# Altium footprint library FTP GER. ABS.PcbLib: 19 footprints (part 1 of 2)
Each footprint in its own frame and in the unit in brackets; x right, y up, seen from the top. Pads: shape width x height; smd on the part's side, far side on the other; paste and mask are expansions set on the pad; w line width, h text height; cw(c..) or ccw(c..) is an arc to the next point about the centre after c.
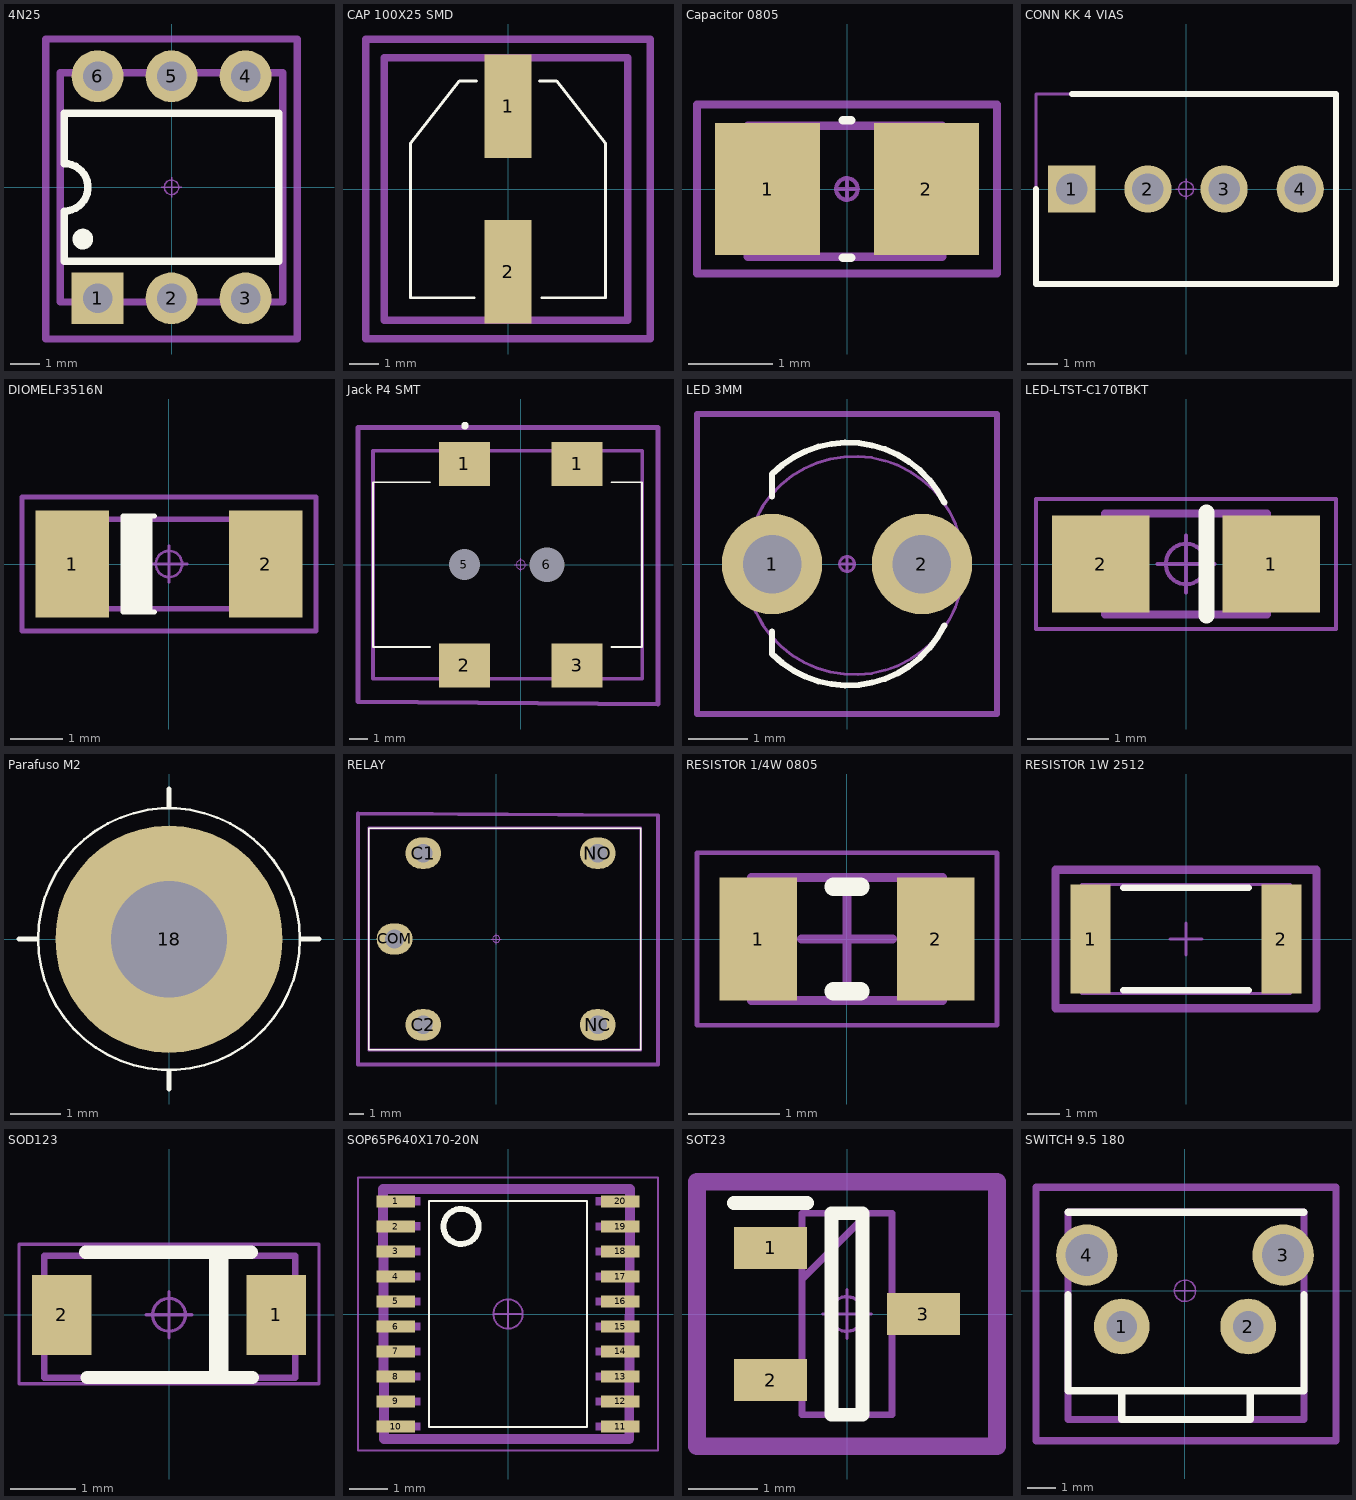
[diagram p0: the footprints below, top view; thin cyan lines are the x and y axes]

## 4N25 [mil]
pads (6):
  rect 70x70 hole 40: 1(-100,-150)
  round 70 hole 40: 2(0,-150) 3(100,-150) 4(100,150) 5(0,150) 6(-100,150)
Top Overlay:
  circle w18: c-120,-70 r5
  lines w10: -145,-100 145,-100 145,100 -145,100 -145,32.02 cw(c-145,0) -145,-32.02 -145,-100
Mechanical 2:
  lines w10: 170,200 170,-205 -170,-205 -170,200.37 170,200.37
Top Component Center:
  circle w1.97: c0,0 r9.84
  lines w1.97: -13.78,0 13.78,0 ; 0,-13.78 0,13.78
Mechanical 15:
  lines w10: -150.39,-155 150,-155 150,155 -150.39,155 -150.39,-155
3D body "4N25.STEP": height 156.62, standoff -147.13, extent -155.12,-159.86 151.97,159.86

## CAP 100X25 SMD [mm]
pads (2):
  rect 1.6x3.5 smd paste-0.05 mask+0.07: 1(0,2.8) 2(0,-2.8)
Top Overlay:
  lines w0.099: -3.3,-3.683 -1.143,-3.683 ; 1.143,-3.683 3.3,-3.683
  lines w0.1: -3.3,-3.683 -3.3,1.55 -1.65,3.658 -1.067,3.658 ; 1.067,3.658 1.65,3.658 3.3,1.55 3.3,-3.683
Mechanical 2:
  lines w0.254: -4.826,-5.08 4.826,-5.08 4.826,5.08 -4.826,5.08 -4.826,-5.08
Mechanical 15:
  lines w0.254: -4.191,-4.445 4.064,-4.445 4.064,4.445 -4.191,4.445 -4.191,-4.445
3D body "Download_STP_865080x4901x (rev1).stp": height 6.51, standoff 0.01, extent -4.15,-4.5 4.15,4.5

## Capacitor 0805 [mm]
pads (2):
  rect 1.24x1.56 smd paste-0.05 mask+0.07: 1(-0.94,0) 2(0.94,0)
Top Overlay:
  lines w0.1: -0.051,-0.813 0.051,-0.813 ; -0.051,0.813 0.051,0.813
Mechanical 2:
  lines w0.1: -1.775,-1 1.775,-1 1.775,1 -1.775,1 -1.775,-1
Top Component Center:
  circle w0.05: c0,0 r0.127
  lines w0.05: -0.127,0 0,0 ; 0,-0.127 0,0 ; 0,0.127 0,0 ; 0.127,0 0,0
Mechanical 15:
  lines w0.1: -1.175,-0.8 -1.175,0.75 1.125,0.75 1.125,-0.8 -1.175,-0.8
3D body "C0805X153K5HACAUTO.stp": height 1, standoff 0, extent -1.175,-0.788 1.125,0.762

## CONN KK 4 VIAS [mm]
pads (4):
  rect 1.575x1.575 / inner round 1.575 / far side rect 1.575x1.575 hole 1.05: 1(-3.81,0)
  round 1.575 hole 1.05: 2(-1.27,0) 3(1.27,0) 4(3.81,0)
Top Overlay:
  lines w0.2: -5.005,0 -5.005,-3.175 5.005,-3.175 5.005,3.175 -3.81,3.175
Top Component Center:
  circle w0.05: c0,0 r0.25
  lines w0.05: -0.35,0 0.35,0 ; 0,-0.35 0,0.35
Mechanical 15:
  lines w0.1: -5.005,-3.175 -5.005,3.175 5.005,3.175 5.005,-3.175 -5.005,-3.175
3D body "22-11-2046.stp": height 11.64, standoff -3.43, extent -5.005,-3.175 5.005,3.175

## DIOMELF3516N [mm] "MELF Diode, 2-Leads, Body 3,51x1,65mm, IPC Medium Density"
height 1.7
pads (2):
  rect 1.4x2.03 smd paste-0.001 mask+0.051: 1(-1.84,0) 2(1.84,0)
Top Overlay:
  rectangle: -0.864,-0.916 -0.314,0.914
  lines w0.1: -0.274,-0.915 -0.874,-0.915 -0.874,0.915 -0.274,0.915
Mechanical 2:
  lines w0.1: -2.8,-1.275 -2.8,1 -2.8,1.275 2.8,1.275 2.8,-1.275 -2.8,-1.275
Top Component Center:
  circle w0.05: c0,0 r0.25
  lines w0.05: -0.35,0 0.35,0 ; 0,-0.35 0,0.35
Mechanical 15:
  lines w0.1: -1.875,-0.85 -1.875,0.85 1.85,0.85 1.85,-0.85 -1.875,-0.85
3D body "User Library-MiniMelf-2.STEP": height 1.6, standoff 0, extent -1.88,-0.8 1.82,0.8

## Jack P4 SMT [mm]
pads (6):
  rect 2.8x2.4 smd: 1(-3.075,5.5) 1(3.075,5.5) 2(-3.075,-5.5) 3(3.075,-5.5)
  round 0.85 hole 1.7 unplated: 5(-3.075,0)
  round 0.95 hole 1.9 unplated: 6(1.425,0)
Top Overlay:
  lines w0.1: -8.075,4.5 -8.075,-4.4 -8.075,-4.5 -4.958,-4.5 ; -8.052,4.5 -4.958,4.5 ; 4.953,-4.5 6.625,-4.5 6.625,4.5 4.953,4.5
  lines w0.2: -3.149,7.584 ccw(c-3.049,7.584) -2.949,7.584 ; -3.146,7.595 cw(c-3.046,7.595) -2.946,7.595
Mechanical 2:
  lines w0.254: -8.89,-7.493 7.493,-7.62 7.493,7.493 -8.89,7.493 -8.89,-7.493
Top Component Center:
  circle w0.05: c0,0 r0.25
  lines w0.05: -0.35,0 0.35,0 ; 0,-0.35 0,0.35
Mechanical 15:
  lines w0.2: -8.075,-6.223 -8.075,6.223 6.625,6.223 6.625,-6.223 -8.075,-6.223
3D body "694108106102.stp": height 11, standoff -1.2, extent -8.103,-6.199 6.597,6.301

## LED 3MM [mm]
pads (2):
  round 1.7 hole 0.991: 1(-1.27,0) 2(1.27,0)
Top Overlay:
  lines w0.1: -1.27,-1.524 -1.27,-1.143 ; -1.27,1.143 -1.27,1.524
  lines w0.102: -1.27,-1.524 ccw(c0.016,-0.238) 1.648,-1.04 ; -1.27,1.524 cw(c0.016,0.238) 1.648,1.04
Mechanical 5:
  lines w0.1: -2.54,-2.54 2.54,-2.54 2.54,2.54 -2.54,2.54 -2.54,0 -2.54,-2.54
Top Component Center:
  circle w0.05: c0,0 r0.127
  lines w0.05: -0.127,0 0,0 ; 0,-0.127 0,0 ; 0,0.127 0,0 ; 0.127,0 0,0
Mechanical 11:
  circle w0.05: c0.127,-0.025 r1.849
3D body "LED 3mm, Red, Thru-hole, Right Angle PCB 1.stp": height 4.43, standoff -2.69, extent -1.772,-7.332 1.798,0.218

## LED-LTST-C170TBKT [mm] "LED 120X120MM"
pads (2):
  rect 1.2x1.2 smd paste-0.05 mask+0.07: 1(1.05,0) 2(-1.05,0)
Top Overlay:
  lines w0.2: 0.254,-0.635 0.254,0.635
Mechanical 2:
  lines w0.05: -1.85,-0.8 1.85,-0.8 1.85,0.8 -1.85,0.8 -1.85,-0.8
Top Component Center:
  circle w0.05: c0,0 r0.25
  lines w0.05: -0.35,0 0.35,0 ; 0,-0.35 0,0.35
Mechanical 15:
  lines w0.1: -1,-0.625 -1,0.625 1,0.625 1,-0.625 -1,-0.625
3D body "everlight-17-21-0805LED-red.STEP": height 1.11, standoff 0, extent -1,-0.625 1,0.625

## Parafuso M2 [mm]
pads (1):
  round 4.5 hole 2.3 unplated: 18(0,0)
Top Overlay:
  circle w0.05: c0,0 r2.591
  lines w0.1: -2.966,0 -2.616,0 ; 0,-2.966 0,-2.616 ; 0,2.622 0,2.972 ; 2.616,0 2.966,0
3D body "Parafuso sextavado interno ISO 4762 - M2x3.x_t": height 2.01, standoff -2.99, extent -1.9,-1.897 1.9,1.897

## RELAY [mm]
pads (5):
  oval 2.5x2.2 hole 1.3: C1(-5.1,6) C2(-5.1,-6) COM(-7.1,0) NC(7.1,-6) NO(7.1,6)
Top Overlay:
  lines w0.1: -8.9,-7.75 10.1,-7.75 10.1,7.75 -8.9,7.75 -8.9,-7.75
Mechanical 2:
  lines w0.254: -9.652,-8.763 11.303,-8.763 11.303,8.636 -9.652,8.763 -9.652,-8.763
Top Component Center:
  circle w0.05: c0,0 r0.25
  lines w0.05: -0.35,0 0.35,0 ; 0,-0.35 0,0.35
Mechanical 15:
  lines w0.2: -8.9,-7.75 10.1,-7.75 10.1,7.75 -8.9,7.75 -8.9,-7.75
3D body "RELAY_SRD-05VDC.STEP": height 15.9, standoff -2.8, extent -8.711,-7.747 10.489,7.853

## RESISTOR 1/4W 0805 [mm]
height 0.6
pads (2):
  rect 0.85x1.35 smd: 1(-0.975,0) 2(0.975,0)
Top Overlay:
  lines w0.2: -0.15,-0.575 0.15,-0.575 ; -0.15,0.575 0.15,0.575
Mechanical 2:
  lines w0.05: -1.65,-0.95 -1.65,0.95 1.65,0.95 1.65,-0.95 -1.65,-0.95
Top Component Center:
  lines w0.1: -0.5,0 0.5,0 ; 0,-0.5 0,0.5
Mechanical 15:
  lines w0.1: -1.05,-0.675 -1.05,0.675 1.05,0.675 1.05,-0.675 -1.05,-0.675
3D body "Chip2PinSM127P600-8N.step": height 0.6, standoff 0, extent -1.05,-0.675 1.05,0.675

## RESISTOR 1W 2512 [mm]
height 0.6
pads (2):
  rect 1.25x3.4 smd: 1(-2.975,0) 2(2.975,0)
Top Overlay:
  lines w0.2: -1.95,-1.6 1.95,-1.6 ; -1.95,1.6 1.95,1.6
Mechanical 2:
  lines w0.254: -4.064,-2.159 4.064,-2.159 4.064,2.159 -4.064,2.159 -4.064,-2.159
Top Component Center:
  lines w0.1: -0.5,0 0.5,0 ; 0,-0.5 0,0.5
Mechanical 15:
  lines w0.1: -3.25,-1.7 3.25,-1.7 3.25,1.7 -3.25,1.7 -3.25,-1.7
3D body "Chip2PinSM127P600-8N.step": height 0.6, standoff 0, extent -3.25,-1.7 3.25,1.7

## SOD123 [mm] "DIODO"
pads (2):
  rect 0.91x1.22 smd paste-0.05 mask+0.07: 1(1.635,0) 2(-1.635,0)
Top Overlay:
  rectangle: 0.61,-0.864 0.908,0.864
  lines w0.2: -1.268,0.954 1.253,0.954 ; -1.247,-0.957 1.274,-0.957
Mechanical 2:
  lines w0.05: -2.286,-1.05 -2.286,0 -2.286,1.075 2.286,1.075 2.286,-1.05 -2.286,-1.05
Top Component Center:
  circle w0.05: c0,0 r0.25
  lines w0.05: -0.35,0 0.35,0 ; 0,-0.35 0,0.35
Mechanical 15:
  lines w0.1: -1.9,-0.957 1.925,-0.957 1.925,0.9 -1.9,0.9 -1.9,-0.957
3D body "1N4007W-T.stp": height 1.3, standoff 0, extent -1.9,-0.9 1.9,0.9

## SOP65P640X170-20N [mil] "SOP, 20-Leads, Body 6,50x4,40mm, Pitch 0,65mm, IPC Medium Density"
height 66.93
pads (20):
  rect 39x12 smd paste-1.97 mask+2.76: 1(-114.87,115.16) 2(-114.87,89.57) 3(-114.87,63.98) 4(-114.87,38.39) 5(-114.87,12.8) 6(-114.87,-12.8) 7(-114.87,-38.39) 8(-114.87,-63.98) 9(-114.87,-89.57) 10(-114.87,-115.16) 11(114.87,-115.16) 12(114.87,-89.57) 13(114.87,-63.98) 14(114.87,-38.39) 15(114.87,-12.8) 16(114.87,12.8) 17(114.87,38.39) 18(114.87,63.98) 19(114.87,89.57) 20(114.87,115.16)
Top Overlay:
  circle w6: c-48,89.59 r18
  lines w2: -80.87,-115.59 80.87,-115.59 80.87,115.59 -80.87,115.59 -80.87,-115.59
Mechanical 2:
  lines w1.97: -153.54,-139.76 153.54,-139.76 153.54,139.76 -153.54,139.76 -153.54,-139.76
Top Component Center:
  circle w1.97: c0,0 r15
  lines w1.97: -15,0 0,0 ; 0,-15 0,0 ; 0,15 0,0 ; 15,0 0,0
Mechanical 13:
  region: 89.96,111.16 89.96,119.28 122.87,119.28 122.87,111.16
  region: 89.88,85.57 89.88,93.57 122.87,93.57 122.87,85.57
  region: 89.88,59.98 89.88,67.98 122.87,67.98 122.87,59.98
  region: 89.89,34.39 89.89,42.39 122.87,42.39 122.87,34.39
  region: 89.93,8.8 89.93,16.81 122.87,16.81 122.87,8.8
  region: 89.95,-16.8 89.95,-8.8 122.87,-8.8 122.87,-16.8
  region: 89.92,-42.39 89.92,-34.4 122.87,-34.4 122.87,-42.39
  region: 89.92,-67.98 89.92,-60.01 122.87,-60.01 122.87,-67.98
  region: 89.91,-93.57 89.91,-85.6 122.87,-85.6 122.87,-93.57
  region: 89.95,-119.16 89.95,-111.25 122.87,-111.25 122.87,-119.16
  region: -122.88,-119.16 -122.88,-111.17 -89.87,-111.17 -89.87,-119.16
  region: -123.11,-93.57 -123.11,-85.73 -89.87,-85.73 -89.87,-93.57
  region: -123.06,-67.98 -123.06,-60.07 -89.87,-60.07 -89.87,-67.98
  region: -122.91,-42.39 -122.91,-34.4 -89.87,-34.4 -89.87,-42.39
  region: -122.9,-16.8 -122.9,-8.8 -89.87,-8.8 -89.87,-16.8
  region: -123.1,8.8 -123.1,16.83 -89.87,16.83 -89.87,8.8
  region: -123.08,34.39 -123.08,42.46 -89.87,42.46 -89.87,34.39
  region: -122.88,59.98 -122.88,67.98 -89.87,67.98 -89.87,59.98
  region: -123.12,85.57 -123.12,93.75 -89.87,93.75 -89.87,85.57
  region: -123.02,111.16 -123.02,119.3 -89.87,119.3 -89.87,111.16
Mechanical 15:
  lines w10: -128,128 -127,-128 124,-128 125,128 -128,128
3D body "STM8S003F3P6.stp": height 47.24, standoff 0, extent -127.57,-127.89 124.4,128.02

## SOT23 [mm]
pads (3):
  rect 1.05x0.6 smd: 1(-1.1,0.95) 2(-1.1,-0.95) 3(1.1,0)
Top Overlay:
  lines w0.2: -1.626,1.6 -0.576,1.6 ; -0.225,-1.45 0.225,-1.45 0.225,1.45 -0.225,1.45 -0.225,-1.45
Mechanical 2:
  lines w0.254: -2.159,-1.905 -2.159,1.905 2.159,1.905 2.159,-1.905 -2.159,-1.905
Top Component Center:
  circle w0.05: c0,0 r0.25
  lines w0.05: -0.35,0 0.35,0 ; 0,-0.35 0,0.35
Mechanical 15:
  lines w0.1: -0.65,0.5 0.3,1.45 ; -0.65,-1.45 0.65,-1.45 0.65,1.45 -0.65,1.45 -0.65,-1.45
3D body "BC817.stp": height 1.1, standoff 0, extent -1.15,-1.45 1.15,1.45

## SWITCH 9.5 180 [mil]
pads (4):
  round 78 hole 43: 1(-88.5,-50) 2(88.5,-50)
  round 86 hole 59: 3(137.5,50) 4(-137.5,50)
Top Overlay:
  lines w10: -163.5,-5 -163.5,-140 -88.5,-140 ; -163.5,110 166.5,110 ; 166.5,-5 166.5,-140 91.5,-140 ; -88.5,-140 91.5,-140 ; -88.5,-140 -88.5,-180 91.5,-180 91.5,-170 91.5,-150 91.5,-140
Mechanical 2:
  lines w10: -208.5,-210 211.5,-210 211.5,145 -208.5,145 -208.5,-210
Top Component Center:
  circle w1.97: c0,0 r15
  lines w1.97: -15,0 0,0 ; 0,-15 0,0 ; 0,15 0,0 ; 15,0 0,0
Mechanical 15:
  lines w10: -163.5,-180 -163.5,110 166.5,110 166.5,-180 -163.5,-180
3D body "A06N-9.5.step": height 276.09, standoff -176.67, extent -162.13,-291.57 165.13,110